# EAGLE library part PLUX16 (library KMZ)
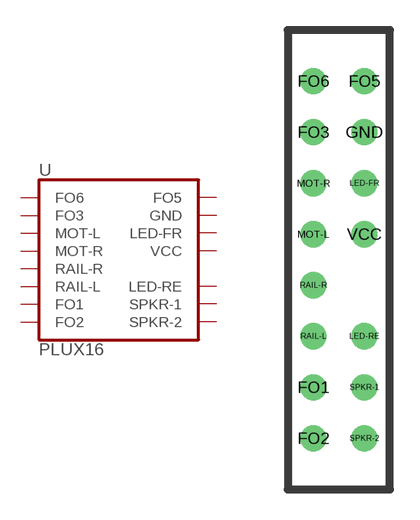
[diagram p4: symbol with the pads of PLUX16; footprint PLUX16]

Designator prefix -

## PLUX16  [PLUX16]
FO1  FO1
FO2  FO2
FO3  FO3
FO5  FO5
FO6  FO6
GND  GND
LED-FR  LED-FR
LED-RE  LED-RE
MOT-L  MOT-L
MOT-R  MOT-R
RAIL-L  RAIL-L
RAIL-R  RAIL-R
SPKR-1  SPKR-1
SPKR-2  SPKR-2
VCC  VCC

## Footprint PLUX16 (pad centres in mm)
drill 0.8 round: FO1 -1.27,-6.35; FO2 -1.27,-8.89; FO3 -1.27,6.35; FO5 1.27,8.89; FO6 -1.27,8.89; GND 1.27,6.35; LED-FR 1.27,3.81; LED-RE 1.27,-3.81; MOT-L -1.27,1.27; MOT-R -1.27,3.81; RAIL-L -1.27,-3.81; RAIL-R -1.27,-1.27; SPKR-1 1.27,-6.35; SPKR-2 1.27,-8.89; VCC 1.27,1.27